# Altium footprint library Inductor.PcbLib: 2 footprints
Each footprint in its own frame and in the unit in brackets; x right, y up, seen from the top. Pads: shape width x height; smd on the part's side, far side on the other; paste and mask are expansions set on the pad; w line width, h text height; cw(c..) or ccw(c..) is an arc to the next point about the centre after c.
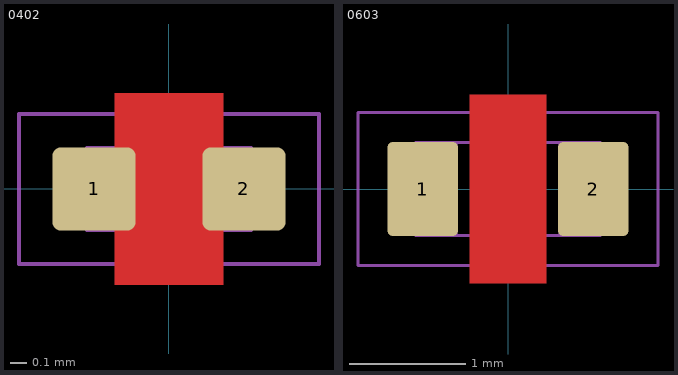
[diagram p0: the footprints below, top view; thin cyan lines are the x and y axes]

## 0402 [mil]
pads (2):
  rrect20% 20x20 smd mask+2: 1(-18,0) 2(18,0)
Top Layer:
  pour cut-out: -13,23 13,23 13,-23 -13,-23
Top Solder:
  rectangle: -8,-18 8,18
  rectangle: -16,-12 16,12
Top Designator:
  text ".Designator" at -54.7,-5.36 h15
Top Courtyard:
  lines w1: -36,-18 -36,18 36,18 36,-18 -36,-18
Top Component Outline:
  lines w1: -9.84,-9.84 -9.84,9.84 ; 9.84,-9.84 9.84,9.84 ; -19.68,-9.84 19.68,-9.84 19.68,9.84 -19.68,9.84 -19.68,-9.84
3D body: height 19.8, standoff 0.2, extent -19.68,-9.84 19.68,9.84
3D body: height 20, standoff 0, extent 10,-10 20,10
3D body: height 20, standoff 0, extent -20,-10 -10,10
3D body: height 19.81, standoff 19, extent -9,-9 0,9

## 0603 [mil]
pads (2):
  rrect15% 24x32 smd paste-2 mask+2: 1(-29,0) 2(29,0)
Top Layer:
  pour cut-out: -13,32 13,32 13,-32 -13,-32
Top Solder:
  rectangle: -8,-27 8,27
Top Designator:
  text ".Designator" at -54.7,-5.36 h15
Top Courtyard:
  lines w1: -51,-26 -51,26 51,26 51,-26 -51,-26
Top Component Outline:
  lines w1: -17.72,-15.75 -17.72,15.75 ; 17.72,-15.75 17.72,15.75 ; -31.5,-15.75 31.5,-15.75 31.5,15.75 -31.5,15.75 -31.5,-15.75
3D body: height 29.81, standoff 29, extent -17,-14 0,14
3D body: height 29.8, standoff 0.2, extent -31.5,-15.75 31.5,15.75
3D body: height 30, standoff 0, extent -32,-16 -18,16
3D body: height 30, standoff 0, extent 18,-16 32,16